# EAGLE library part FT231X (library U-Transceiver)
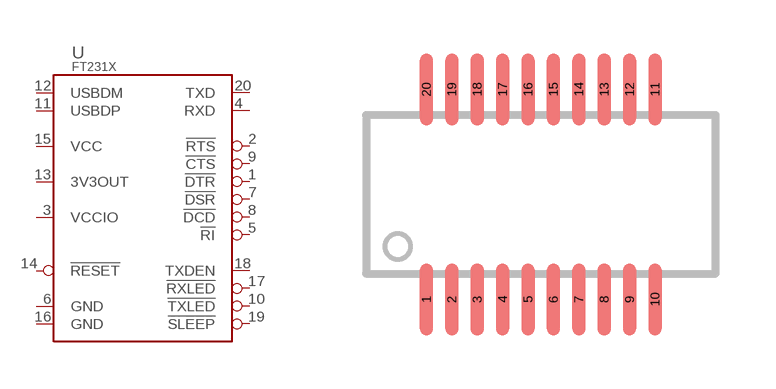
[diagram p7: symbol with the pads of 20SSOP; footprint 20SSOP]

Designator prefix U

## FT231X  [20SSOP]
1  !DTR!  out
2  !RTS!  out
3  VCCIO  pwr
4  RXD  in
5  !RI!  in
6  GND  pwr
7  !DSR!  in
8  !DCD!  in
9  !CTS!  in
10  !TXLED  out
11  USBDP  in
12  USBDM  in
13  3V3OUT  out
14  !RESET!  in
15  VCC  pwr
16  GND  pwr
17  !RXLED  out
18  TXDEN  out
19  !SLEEP  out
20  TXD  out

## Footprint 20SSOP (pad centres in mm)
20POS SHRINK SMALL OUTLINE PLASTIC (20-SSOP) NOTE: FTDI data sheet shows .025" lead spacing, but the typical is 0.0256" (0.65mm), so this may be a datasheet error, but if not I think 0.025 will stillwork on 0.0256 pads. I have verified that it is not a datasheet error and 0.635mm pitch is correct on the datasheet, so now(9/22/15) this package is fixed.
smd 0.33 x 1.8: 1 -2.857,-2.625; 2 -2.223,-2.625; 3 -1.587,-2.625; 4 -0.953,-2.625; 5 -0.318,-2.625; 6 0.318,-2.625; 7 0.953,-2.625; 8 1.587,-2.625; 9 2.223,-2.625; 10 2.857,-2.625; 11 2.857,2.625; 12 2.223,2.625; 13 1.587,2.625; 14 0.953,2.625; 15 0.318,2.625; 16 -0.318,2.625; 17 -0.953,2.625; 18 -1.587,2.625; 19 -2.223,2.625; 20 -2.857,2.625